# EAGLE library part UDA1361TS (library smok)
96 kHz sampling 24-bit stereo audio ADC by Philips, http://www.rcscomponents.kiev.ua/modules/Asers_Shop/images/datasheets/UDA1361TS-N1%2C112.pdf
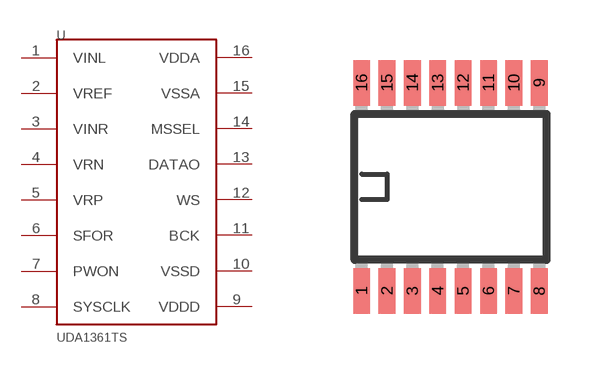
[diagram p3: symbol with the pads of SSOP16; footprint SSOP16]

Designator prefix -

## UDA1361TS  [SSOP16]
1  VINL
2  VREF
3  VINR
4  VRN
5  VRP
6  SFOR
7  PWON
8  SYSCLK
9  VDDD
10  VSSD
11  BCK
12  WS
13  DATAO
14  MSSEL
15  VSSA
16  VDDA

## Footprint SSOP16 (pad centres in mm)
GN Package 16-Lead Plastic SSOP (Narrow .150 Inch) Source: http://cds.linear.com/docs/Datasheet/623012fb.pdf
smd 0.419 x 1.143: 1 -2.223,-2.6; 2 -1.587,-2.6; 3 -0.953,-2.6; 4 -0.318,-2.6; 5 0.318,-2.6; 6 0.953,-2.6; 7 1.587,-2.6; 8 2.223,-2.6; 9 2.223,2.6; 10 1.587,2.6; 11 0.953,2.6; 12 0.318,2.6; 13 -0.318,2.6; 14 -0.953,2.6; 15 -1.587,2.6; 16 -2.223,2.6